# Altium footprint library CW308T_STM32F415_CSP.PcbLib: 13 footprints
Each footprint in its own frame and in the unit in brackets; x right, y up, seen from the top. Pads: shape width x height; smd on the part's side, far side on the other; paste and mask are expansions set on the pad; w line width, h text height; cw(c..) or ccw(c..) is an arc to the next point about the centre after c.
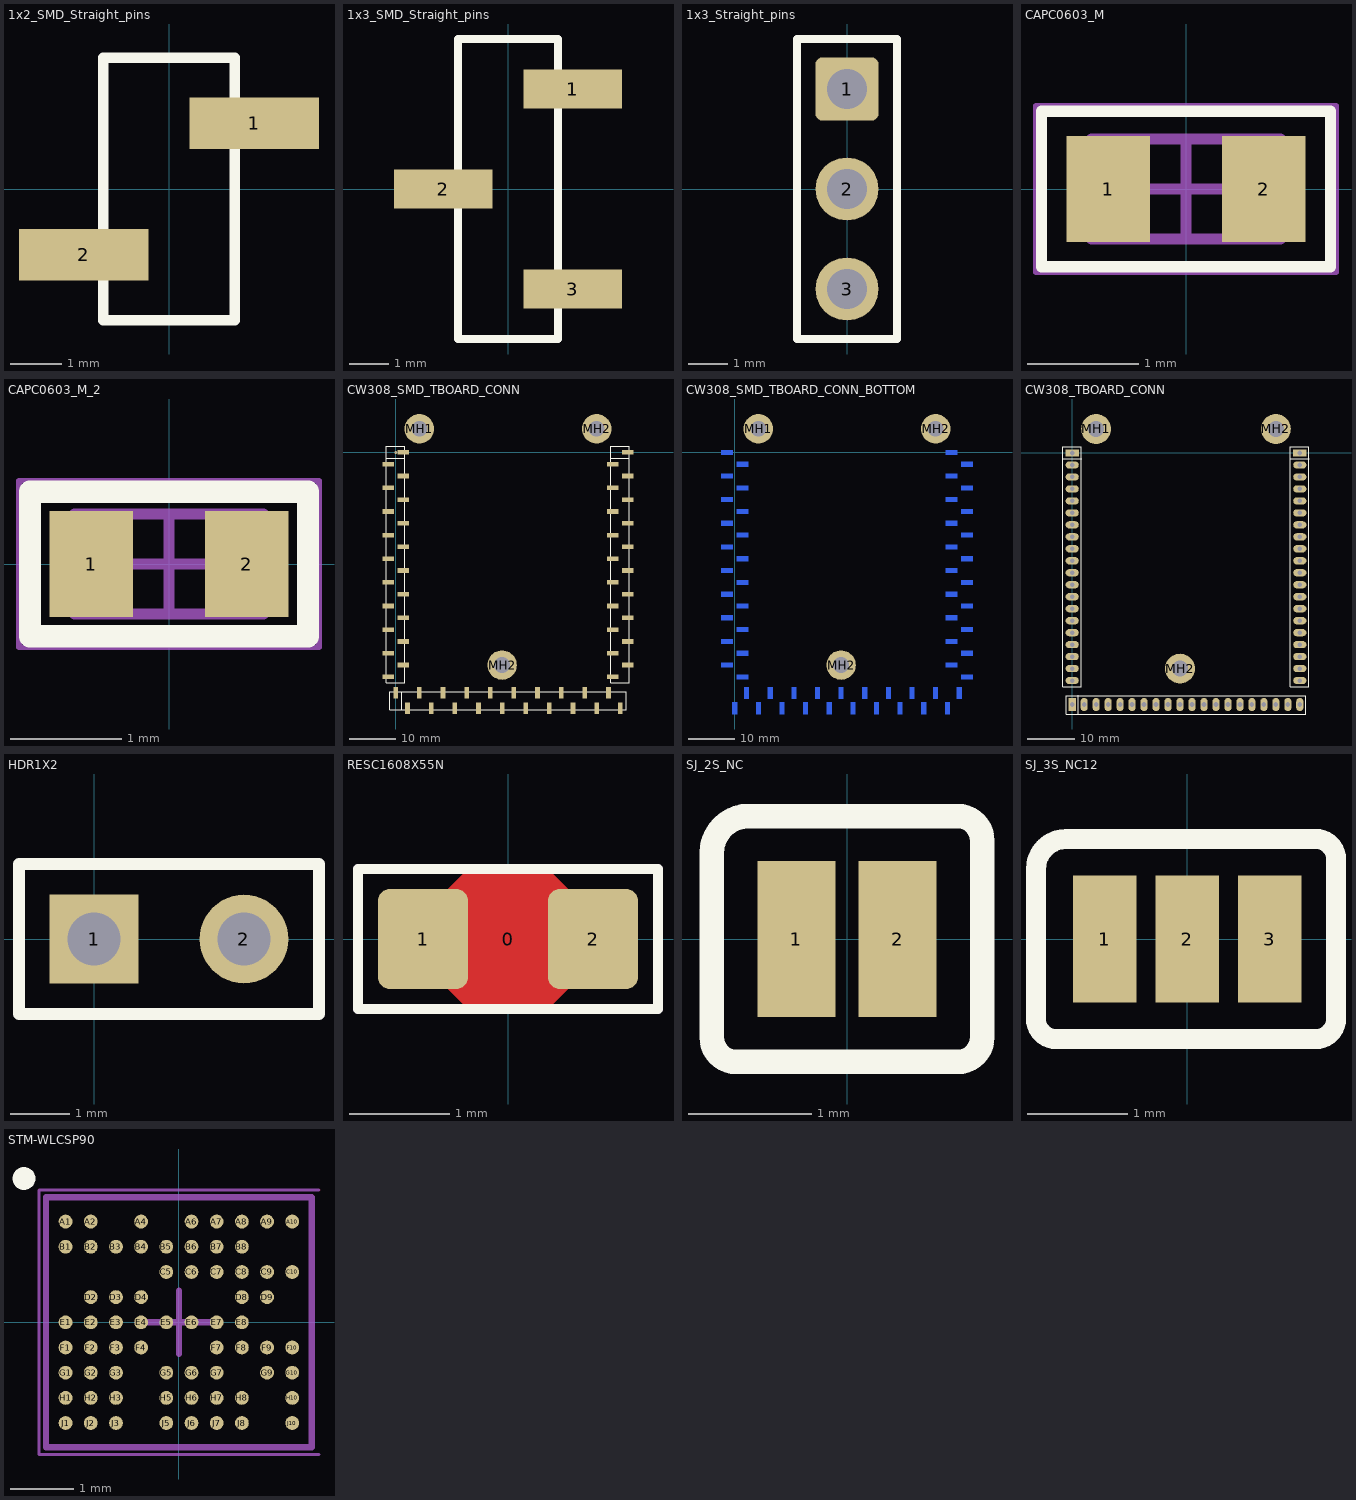
[diagram p0: the footprints below, top view; thin cyan lines are the x and y axes]

## 1x2_SMD_Straight_pins [mm]
height 0.55
pads (2):
  rect 2.5x1 smd: 1(1.65,1.27) 2(-1.65,-1.27)
Top Overlay:
  lines w0.2: -1.27,-2.54 -1.27,2.54 1.27,2.54 1.27,-2.54 -1.27,-2.54
3D body "m20-8770246_asm.stp": height 9.9, standoff -0.03, extent -2.54,-2.54 2.54,2.54

## 1x3_SMD_Straight_pins [mm]
height 0.55
pads (3):
  rect 2.5x1 smd: 1(1.65,2.54) 2(-1.65,0) 3(1.65,-2.54)
Top Overlay:
  lines w0.2: -1.27,-3.81 1.27,-3.81 1.27,3.81 -1.27,3.81 -1.27,-3.81
3D body "m20-8770342_asm.stp": height 9.9, standoff -0.03, extent -2.54,-3.81 2.54,3.81

## 1x3_Straight_pins [mm]
height 0.55
pads (3):
  rrect20% 1.6x1.6 hole 1.02: 1(0,2.54)
  round 1.6 hole 1.02: 2(0,0) 3(0,-2.54)
Top Overlay:
  lines w0.2: -1.27,-3.81 1.27,-3.81 1.27,3.81 -1.27,3.81 -1.27,-3.81
3D body "STEP-61300311121-rev1.stp": height 8.57, standoff -2.97, extent -1.27,-3.81 1.27,3.81

## CAPC0603_M [mm]
height 0.9
pads (2):
  rect 0.75x0.95 smd: 1(-0.7,0) 2(0.7,0)
Top Overlay:
  lines w0.1: -1.3,-0.7 1.3,-0.7 1.3,0.7 -1.3,0.7 -1.3,-0.7
Mechanical 13:
  lines w0.1: -0.85,-0.45 -0.85,0.45 0.85,0.45 0.85,-0.45 -0.85,-0.45
Mechanical 15:
  lines w0.05: -1.35,-0.75 -1.35,0.75 1.35,0.75 1.35,-0.75 -1.35,-0.75
  lines w0.1: -0.45,0 0.45,0 ; 0,-0.45 0,0.45
3D body "CAPC0603_M.step": height 0.9, standoff 0, extent -0.85,-0.45 0.85,0.45

## CAPC0603_M_2 [mm]
pads (2):
  rect 0.75x0.95 smd: 1(-0.7,0) 2(0.7,0)
Top Overlay:
  lines w0.2: -1.25,-0.65 -1.25,0.65 -1.1,0.65 1.1,0.65 1.25,0.65 1.25,-0.65 1.1,-0.65 -1.1,-0.65 -1.25,-0.65
Mechanical 13:
  lines w0.1: -0.85,-0.45 0.85,-0.45 0.85,0.45 -0.85,0.45 -0.85,-0.45
Mechanical 15:
  lines w0.05: -1.35,-0.75 1.35,-0.75 1.35,0.75 -1.35,0.75 -1.35,-0.75
  lines w0.1: -0.45,0 0.45,0 ; 0,-0.45 0,0.45
3D body "CAPC0603_M.step": height 0.9, standoff 0, extent -0.85,-0.45 0.85,0.45

## CW308_SMD_TBOARD_CONN [mm]
pads (63):
  rect 2.5x1 smd: A1(1.65,0) A2(-1.65,-2.54) A3(1.65,-5.08) A4(-1.65,-7.62) A5(1.65,-10.16) A6(-1.65,-12.7) A7(1.65,-15.24) A8(-1.65,-17.78) A9(1.65,-20.32) A10(-1.65,-22.86) A11(1.65,-25.4) A12(-1.65,-27.94) A13(1.65,-30.48) A14(-1.65,-33.02) A15(1.65,-35.56) A16(-1.65,-38.1) A17(1.65,-40.64) A18(-1.65,-43.18) A19(1.65,-45.72) A20(-1.65,-48.26) C1(49.91,0) C2(46.61,-2.54) C3(49.91,-5.08) C4(46.61,-7.62) C5(49.91,-10.16) C6(46.61,-12.7) C7(49.91,-15.24) C8(46.61,-17.78) C9(49.91,-20.32) C10(46.61,-22.86) C11(49.91,-25.4) C12(46.61,-27.94) C13(49.91,-30.48) C14(46.61,-33.02) C15(49.91,-35.56) C16(46.61,-38.1) C17(49.91,-40.64) C18(46.61,-43.18) C19(49.91,-45.72) C20(46.61,-48.26)
  rect 1x2.5 smd: B1(0,-51.69) B2(2.54,-54.99) B3(5.08,-51.69) B4(7.62,-54.99) B5(10.16,-51.69) B6(12.7,-54.99) B7(15.24,-51.69) B8(17.78,-54.99) B9(20.32,-51.69) B10(22.86,-54.99) B11(25.4,-51.69) B12(27.94,-54.99) B13(30.48,-51.69) B14(33.02,-54.99) B15(35.56,-51.69) B16(38.1,-54.99) B17(40.64,-51.69) B18(43.18,-54.99) B19(45.72,-51.69) B20(48.26,-54.99)
  round 6.35 hole 3.404: MH1(5.08,5.08) MH2(22.86,-45.72) MH2(43.18,5.08)
via 0,0 diameter 0.635 hole 0.305
Top Overlay:
  lines w0.254: -2,-1.27 1.905,-1.27 ; 1.27,-55.34 1.27,-51.435 ; 46.26,-1.27 50.165,-1.27 ; -2,-49.53 -2,1.27 1.905,1.27 1.905,-49.53 -2,-49.53 ; -1.27,-55.34 49.53,-55.34 49.53,-51.435 -1.27,-51.435 -1.27,-55.34 ; 46.26,-49.53 46.26,1.27 50.165,1.27 50.165,-49.53 46.26,-49.53

## CW308_SMD_TBOARD_CONN_BOTTOM [mm]
pads (63):
  rect 2.5x1 smd far side: A1(-1.65,0) A2(1.65,-2.54) A3(-1.65,-5.08) A4(1.65,-7.62) A5(-1.65,-10.16) A6(1.65,-12.7) A7(-1.65,-15.24) A8(1.65,-17.78) A9(-1.65,-20.32) A10(1.65,-22.86) A11(-1.65,-25.4) A12(1.65,-27.94) A13(-1.65,-30.48) A14(1.65,-33.02) A15(-1.65,-35.56) A16(1.65,-38.1) A17(-1.65,-40.64) A18(1.65,-43.18) A19(-1.65,-45.72) A20(1.65,-48.26) C1(46.61,0) C2(49.91,-2.54) C3(46.61,-5.08) C4(49.91,-7.62) C5(46.61,-10.16) C6(49.91,-12.7) C7(46.61,-15.24) C8(49.91,-17.78) C9(46.61,-20.32) C10(49.91,-22.86) C11(46.61,-25.4) C12(49.91,-27.94) C13(46.61,-30.48) C14(49.91,-33.02) C15(46.61,-35.56) C16(49.91,-38.1) C17(46.61,-40.64) C18(49.91,-43.18) C19(46.61,-45.72) C20(49.91,-48.26)
  rect 1x2.5 smd far side: B1(0,-54.99) B2(2.54,-51.69) B3(5.08,-54.99) B4(7.62,-51.69) B5(10.16,-54.99) B6(12.7,-51.69) B7(15.24,-54.99) B8(17.78,-51.69) B9(20.32,-54.99) B10(22.86,-51.69) B11(25.4,-54.99) B12(27.94,-51.69) B13(30.48,-54.99) B14(33.02,-51.69) B15(35.56,-54.99) B16(38.1,-51.69) B17(40.64,-54.99) B18(43.18,-51.69) B19(45.72,-54.99) B20(48.26,-51.69)
  round 6.35 hole 3.404: MH1(5.08,5.08) MH2(22.86,-45.72) MH2(43.18,5.08)
Bottom Overlay:
  lines w0.254: -2,-46.609 -2,-49.53 1.905,-49.53 1.905,-49.149 ; -2,-44.767 -2,-41.593 ; -2,-39.62 -2,-36.446 ; -2,-34.58 -2,-31.405 ; -2,-29.555 -2,-26.381 ; -2,-24.466 -2,-21.291 ; -2,-19.36 -2,-16.185 ; -2,-14.278 -2,-11.104 ; -2,-9.18 -2,-6.006 ; -2,-4.063 -2,-0.889 ; -2,-1.27 1.905,-1.27 ; -2,0.889 -2,1.27 1.905,1.27 1.905,-1.651 ; -0.889,-55.34 -1.27,-55.34 -1.27,-51.435 1.651,-51.435 ; 0.889,-55.34 4.063,-55.34 ; 1.27,-55.34 1.27,-51.435 ; 1.905,-47.288 1.905,-44.113 ; 1.905,-42.297 1.905,-39.123 ; 1.905,-37.189 1.905,-34.014 ; 1.905,-32.036 1.905,-28.861 ; 1.905,-26.994 1.905,-23.819 ; 1.905,-21.922 1.905,-18.748 ; 1.905,-16.85 1.905,-13.676 ; 1.905,-11.742 1.905,-8.567 ; 1.905,-6.685 1.905,-3.511 ; 3.511,-51.435 6.685,-51.435 ; 6.006,-55.34 9.18,-55.34 ; 8.567,-51.435 11.742,-51.435 ; 11.104,-55.34 14.278,-55.34 ; 13.676,-51.435 16.85,-51.435 ; 16.185,-55.34 19.36,-55.34 ; 18.748,-51.435 21.922,-51.435 ; 21.291,-55.34 24.466,-55.34 ; 23.819,-51.435 26.994,-51.435 ; 26.381,-55.34 29.555,-55.34 ; 28.861,-51.435 32.036,-51.435 ; 31.405,-55.34 34.58,-55.34 ; 34.014,-51.435 37.189,-51.435 ; 36.446,-55.34 39.62,-55.34 ; 39.123,-51.435 42.297,-51.435 ; 41.593,-55.34 44.767,-55.34 ; 44.113,-51.435 47.288,-51.435 ; 46.26,-46.609 46.26,-49.53 50.165,-49.53 50.165,-49.149 ; 46.26,-44.767 46.26,-41.593 ; 46.26,-39.62 46.26,-36.446 ; 46.26,-34.58 46.26,-31.405 ; 46.26,-29.555 46.26,-26.381 ; 46.26,-24.466 46.26,-21.291 ; 46.26,-19.36 46.26,-16.185 ; 46.26,-14.278 46.26,-11.104 ; 46.26,-9.18 46.26,-6.006 ; 46.26,-4.063 46.26,-0.889 ; 46.26,-1.27 50.165,-1.27 ; 46.26,0.889 46.26,1.27 50.165,1.27 50.165,-1.651 ; 46.609,-55.34 49.53,-55.34 49.53,-51.435 49.149,-51.435 ; 50.165,-47.288 50.165,-44.113 ; 50.165,-42.297 50.165,-39.123 ; 50.165,-37.189 50.165,-34.014 ; 50.165,-32.036 50.165,-28.861 ; 50.165,-26.994 50.165,-23.819 ; 50.165,-21.922 50.165,-18.748 ; 50.165,-16.85 50.165,-13.676 ; 50.165,-11.742 50.165,-8.567 ; 50.165,-6.685 50.165,-3.511

## CW308_TBOARD_CONN [mil]
pads (63):
  rect 110x60 hole 39: A1(0,0) C1(1900,0)
  oval 110x60 hole 39: A2(0,-100) A3(0,-200) A4(0,-300) A5(0,-400) A6(0,-500) A7(0,-600) A8(0,-700) A9(0,-800) A10(0,-900) A11(0,-1000) A12(0,-1100) A13(0,-1200) A14(0,-1300) A15(0,-1400) A16(0,-1500) A17(0,-1600) A18(0,-1700) A19(0,-1800) A20(0,-1900) C2(1900,-100) C3(1900,-200) C4(1900,-300) C5(1900,-400) C6(1900,-500) C7(1900,-600) C8(1900,-700) C9(1900,-800) C10(1900,-900) C11(1900,-1000) C12(1900,-1100) C13(1900,-1200) C14(1900,-1300) C15(1900,-1400) C16(1900,-1500) C17(1900,-1600) C18(1900,-1700) C19(1900,-1800) C20(1900,-1900)
  rect 60x110 hole 39: B1(0,-2100)
  oval 60x110 hole 39: B2(100,-2100) B3(200,-2100) B4(300,-2100) B5(400,-2100) B6(500,-2100) B7(600,-2100) B8(700,-2100) B9(800,-2100) B10(900,-2100) B11(1000,-2100) B12(1100,-2100) B13(1200,-2100) B14(1300,-2100) B15(1400,-2100) B16(1500,-2100) B17(1600,-2100) B18(1700,-2100) B19(1800,-2100) B20(1900,-2100)
  round 250 hole 134: MH1(200,200) MH2(900,-1800) MH2(1700,200)
Top Overlay:
  lines w10: -78.74,-50 78.74,-50 ; 50,-2178.74 50,-2021.26 ; 1821.26,-50 1978.74,-50 ; -78.74,-1950 -78.74,50 75,50 75,-1950 -78.74,-1950 ; -50,-2178.74 1950,-2178.74 1950,-2025 -50,-2025 -50,-2178.74 ; 1821.26,-1950 1821.26,50 1975,50 1975,-1950 1821.26,-1950
3D body "HTSW-120-05-G-S.stp": height 43, standoff -292, extent -49.99,-2148.99 1950.01,-2050.99
3D body "HTSW-120-05-G-S.stp": height 43, standoff -292, extent 1851,-1949.99 1949,50.01
3D body "HTSW-120-05-G-S.stp": height 47.88, standoff -287.12, extent -49,-1949.99 49,50.01

## HDR1X2 [mm] "Connector; Header; 2 Position"
height 0.55
pads (2):
  rect 1.5x1.5 hole 0.9: 1(0,0)
  round 1.5 hole 0.9: 2(2.54,0)
Top Overlay:
  lines w0.2: -1.27,-1.27 3.81,-1.27 3.81,1.27 -1.27,1.27 -1.27,-1.27

## RESC1608X55N [mm] "Chip Resistor, Body 1.6x0.8mm, EIA 0603, IPC Medium Density"
height 0.55
pads (3):
  round 0.254 on Mech15: 0(0,0)
  rrect25% 0.9x1 smd: 1(-0.85,0) 2(0.85,0)
Top Layer:
  pour cut-out: -0.6,0.5 -0.4,0.7 0.4,0.7 0.6,0.5 0.6,-0.5 0.4,-0.7 -0.4,-0.7 -0.6,-0.5
Top Overlay:
  lines w0.1: -1.5,-0.7 -1.5,0.7 1.5,0.7 1.5,-0.7 -1.5,-0.7
Mechanical 8:
  text ".Designator" at -1.275,-0.325 h1
Mechanical 13:
  lines w0.05: -0.875,-0.475 -0.875,0.475 -0.475,0.475 -0.475,-0.475 -0.875,-0.475 ; -0.475,-0.474 0.475,-0.474 -0.475,-0.474 ; -0.475,0.474 0.475,0.474 -0.475,0.474 ; 0.475,-0.475 0.875,-0.475 0.875,0.475 0.475,0.475 0.475,-0.475
Mechanical 15:
  lines w0.1: -1.5,-0.7 1.5,-0.7 1.5,0.7 -1.5,0.7 -1.5,-0.7
3D body "RES 0603 (1608 metric).STEP": height 0.54, standoff -0.01, extent -0.875,-0.475 0.875,0.475

## SJ_2S_NC [mm] "Solder Jumper, closed with solder paste"
height 0.55
pads (2):
  rect 0.635x1.27 smd: 1(-0.412,0) 2(0.412,0)
Top Overlay:
  lines w0.2: -1.1,-0.8 ccw(c-0.9,-0.8) -0.9,-1 0.9,-1 ccw(c0.9,-0.8) 1.1,-0.8 1.1,0.8 ccw(c0.9,0.8) 0.9,1 -0.8,1 ccw(c-0.8,0.7) -1.1,0.7 -1.1,-0.8
Top Paste:
  rectangle: -1.22,-1.1 1.22,1.1
Top Solder:
  rectangle: -0.9,-0.8 0.9,0.8

## SJ_3S_NC12 [mm] "3-Way Solder Jumper, pads 1-2 closed"
height 0.55
pads (3):
  rect 0.635x1.27 smd: 1(-0.824,0) 2(0,0)
  rect 0.635x1.27 smd paste-10: 3(0.824,0)
Top Overlay:
  lines w0.2: -1.512,-0.8 ccw(c-1.312,-0.8) -1.312,-1 1.288,-1 ccw(c1.288,-0.8) 1.488,-0.8 1.488,0.8 ccw(c1.288,0.8) 1.288,1 -1.212,1 ccw(c-1.212,0.7) -1.512,0.7 -1.512,-0.8
Top Paste:
  rectangle: -1.312,-0.8 0.288,0.8
Top Solder:
  rectangle: -1.312,-0.8 1.288,0.8

## STM-WLCSP90 [mm] "BGA, 90-Leads, Body 3.97x4.22mm, Pitch 0.4mm"
height 0.62
pads (67):
  round 0.22 smd: A1(-1.8,1.6) A2(-1.4,1.6) A4(-0.6,1.6) A6(0.2,1.6) A7(0.6,1.6) A8(1,1.6) A9(1.4,1.6) A10(1.8,1.6) B1(-1.8,1.2) B2(-1.4,1.2) B3(-1,1.2) B4(-0.6,1.2) B5(-0.2,1.2) B6(0.2,1.2) B7(0.6,1.2) B8(1,1.2) C5(-0.2,0.8) C6(0.2,0.8) C7(0.6,0.8) C8(1,0.8) C9(1.4,0.8) C10(1.8,0.8) D2(-1.4,0.4) D3(-1,0.4) D4(-0.6,0.4) D8(1,0.4) D9(1.4,0.4) E1(-1.8,0) E2(-1.4,0) E3(-1,0) E4(-0.6,0) E5(-0.2,0) E6(0.2,0) E7(0.6,0) E8(1,0) F1(-1.8,-0.4) F2(-1.4,-0.4) F3(-1,-0.4) F4(-0.6,-0.4) F7(0.6,-0.4) F8(1,-0.4) F9(1.4,-0.4) F10(1.8,-0.4) G1(-1.8,-0.8) G2(-1.4,-0.8) G3(-1,-0.8) G5(-0.2,-0.8) G6(0.2,-0.8) G7(0.6,-0.8) G9(1.4,-0.8) G10(1.8,-0.8) H1(-1.8,-1.2) H2(-1.4,-1.2) H3(-1,-1.2) H5(-0.2,-1.2) H6(0.2,-1.2) H7(0.6,-1.2) H8(1,-1.2) H10(1.8,-1.2) J1(-1.8,-1.6) J2(-1.4,-1.6) J3(-1,-1.6) J5(-0.2,-1.6) J6(0.2,-1.6) J7(0.6,-1.6) J8(1,-1.6) J10(1.8,-1.6)
Top Overlay:
  circle w0.2: c-2.46,2.284 r0.08
Mechanical 13:
  lines w0.1: -2.11,-1.985 -2.11,1.985 2.11,1.985 2.11,-1.985 -2.11,-1.985
Mechanical 15:
  lines w0.05: 2.225,-2.1 -2.225,-2.1 -2.225,2.1 2.225,2.1
  lines w0.1: -0.5,0 0.5,0 ; 0,-0.5 0,0.5
3D body: height 0.62, standoff 0.17, extent -2.109,-1.984 2.109,1.984